# EAGLE library part SI4946CDY-T1-GE3 (library SamacSys_Parts)
VISHAY - SI4946CDY-T1-GE3 - MOSFET, DUAL N-CH, 60V, SOIC Source: Datasheet <https://componentsearchengine.com/Datasheets/1/SI4946CDY-T1-GE3.pdf>
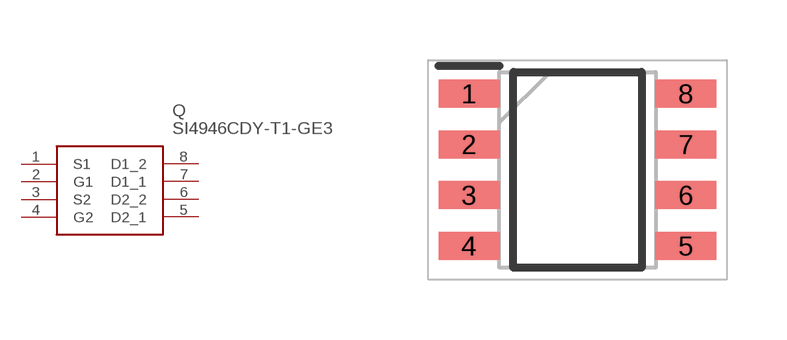
[diagram p2: symbol with the pads of SOIC127P600X175-8N; footprint SOIC127P600X175-8N]

Designator prefix Q

## SI4946CDY-T1-GE3 (DESCRIPTION: VISHAY - SI4946CDY-T1-GE3 - MOSFET, DUAL N-CH, 60V, SOIC; HEIGHT: 1.75mm; MANUFACTURER_NAME: Vishay; MANUFACTURER_PART_NUMBER: SI4946CDY-T1-GE3; MOUSER_PART_NUMBER: 78-SI4946CDY-T1-GE3; MOUSER_PRICE-STOCK: https://www.mouser.com/Search/Refine.aspx?Keyword=78-SI4946CDY-T1-GE3)  [SOIC127P600X175-8N]
1  S1
2  G1
3  S2
4  G2
5  D2_1
6  D2_2
7  D1_1
8  D1_2

## Footprint SOIC127P600X175-8N (pad centres in mm)
SOIC (NARROW) 8-LEAD
smd 1.525 x 0.7: 1 -2.712,1.905; 2 -2.712,0.635; 3 -2.712,-0.635; 4 -2.712,-1.905; 5 2.712,-1.905; 6 2.712,-0.635; 7 2.712,0.635; 8 2.712,1.905